# Altium schematic symbol library Schlib_Gainsil.SchLib: 3 symbols
Pins are listed as number, name and electrical type; pins without a type are passive.

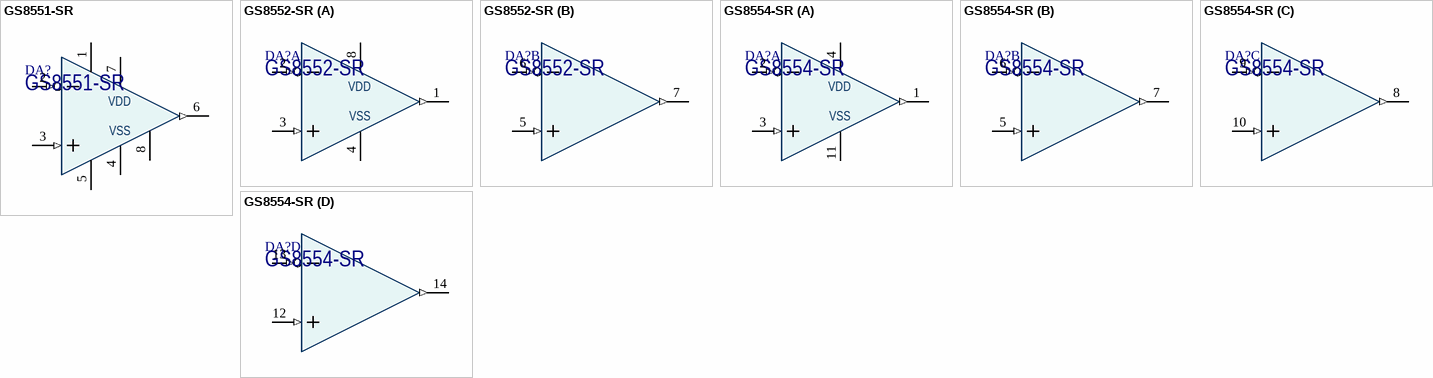
[diagram p0: symbols GS8551-SR to GS8554-SR]

## GS8551-SR
designator DA?
1.8MHZ Zero-Drift CMOS Rail-to-Rail IO Opamp with RF Filter; Manufacturer: GainSil; Package: SOIC-8; Part Number: GS8551-SR
footprint SOIC-8 (SOIC-8 package)
pins: 1 NC (hiz), 2 IN- (in), 3 IN+ (in), 4 VSS (power), 5 NC (hiz), 6 OUT (out), 7 VS+ (power), 8 NC (hiz)
text: VDD

## GS8552-SR
designator DA?
1.8MHZ Zero-Drift CMOS Rail-to-Rail IO Opamp with RF Filter; Manufacturer: GainSil; Package: SOIC-8; Part Number: GS8552-SR
footprint SOIC-8 (SOIC-8 package)
part A pins: 1 1OUT (out), 2 1IN- (in), 3 1IN+ (in), 4 VSS (power), 8 VDD (power)
part B pins: 5 2IN+ (in), 6 2IN- (in), 7 2OUT (out)

## GS8554-SR
designator DA?
1.8MHZ Zero-Drift CMOS Rail-to-Rail IO Opamp with RF Filter; Manufacturer: GainSil; Package: SOIC-14; Part Number: GS8554-SR
footprint SOIC-14 (package SOIC-14, 150 mil)
part A pins: 1 1OUT (out), 2 1IN- (in), 3 1IN+ (in), 4 VDD (power), 11 VSS (power)
part B pins: 5 2IN+ (in), 6 2IN- (in), 7 2OUT (out)
part C pins: 8 3OUT (out), 9 3IN- (in), 10 3IN+ (in)
part D pins: 12 4IN+ (in), 13 4IN- (in), 14 4OUT (out)